# EAGLE library part HT1632 (library ht1632)
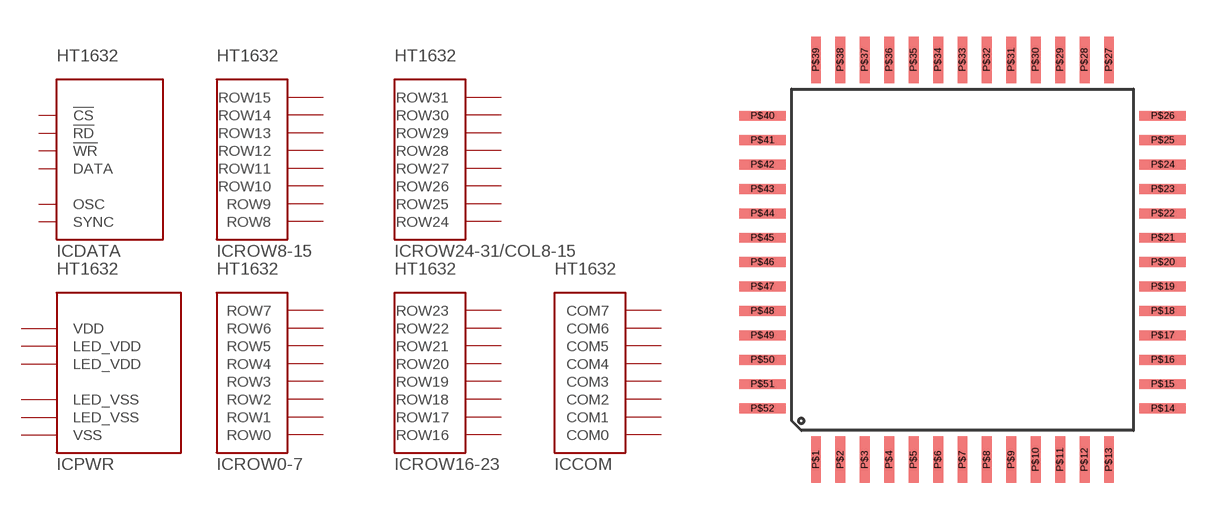
[diagram p0: symbol with the pads of QFP52; footprint QFP52]

Designator prefix IC; gates DATA=HT1632_DATA PWR=HT1632_PWR ROW0-7=HT1632_PORT0 ROW8-15=HT1632_PORT1 ROW16-23=HT1632_PORT2 ROW24-31/COL8-15=HT1632_PORT3 COM=HT1632_COM

## HT1632  [QFP52]
P$1  ROW8-15:ROW11
P$2  ROW8-15:ROW10
P$3  ROW8-15:ROW9
P$4  ROW8-15:ROW8
P$5  ROW0-7:ROW7
P$6  ROW0-7:ROW6
P$7  PWR:LED_VDD
P$8  ROW0-7:ROW5
P$9  ROW0-7:ROW4
P$10  ROW0-7:ROW3
P$11  ROW0-7:ROW2
P$12  ROW0-7:ROW1
P$13  ROW0-7:ROW0
P$14  PWR:VSS
P$15  DATA:OSC
P$16  DATA:DATA
P$17  DATA:!WR
P$18  DATA:!RD
P$19  DATA:!CS
P$20  DATA:SYNC
P$21  PWR:VDD
P$22  COM:COM0
P$23  COM:COM1
P$24  COM:COM2
P$25  PWR:LED_VSS
P$26  COM:COM3
P$27  COM:COM4
P$28  COM:COM5
P$29  COM:COM6
P$30  COM:COM7
P$31  ROW24-31/COL8-15:ROW31
P$32  ROW24-31/COL8-15:ROW30
P$33  ROW24-31/COL8-15:ROW29
P$34  ROW24-31/COL8-15:ROW28
P$35  ROW24-31/COL8-15:ROW27
P$36  PWR:LED_VSS
P$37  ROW24-31/COL8-15:ROW26
P$38  PWR:LED_VDD
P$39  ROW24-31/COL8-15:ROW25
P$40  ROW24-31/COL8-15:ROW24
P$41  ROW16-23:ROW23
P$42  ROW16-23:ROW22
P$43  ROW16-23:ROW21
P$44  ROW16-23:ROW20
P$45  ROW16-23:ROW19
P$46  ROW16-23:ROW18
P$47  ROW16-23:ROW17
P$48  ROW16-23:ROW16
P$49  ROW8-15:ROW15
P$50  ROW8-15:ROW14
P$51  ROW8-15:ROW13
P$52  ROW8-15:ROW12

## Footprint QFP52 (pad centres in mm)
smd 0.406 x 1.9: P$1 -6,-8.1; P$2 -5,-8.1; P$3 -4,-8.1; P$4 -3,-8.1; P$5 -2,-8.1; P$6 -1,-8.1; P$7 0,-8.1; P$8 1,-8.1; P$9 2,-8.1; P$10 3,-8.1; P$11 4,-8.1; P$12 5,-8.1; P$13 6,-8.1; P$27 6,8.3; P$28 5,8.3; P$29 4,8.3; P$30 3,8.3; P$31 2,8.3; P$32 1,8.3; P$33 0,8.3; P$34 -1,8.3; P$35 -2,8.3; P$36 -3,8.3; P$37 -4,8.3; P$38 -5,8.3; P$39 -6,8.3
smd 1.9 x 0.406: P$14 8.2,-6; P$15 8.2,-5; P$16 8.2,-4; P$17 8.2,-3; P$18 8.2,-2; P$19 8.2,-1; P$20 8.2,0; P$21 8.2,1; P$22 8.2,2; P$23 8.2,3; P$24 8.2,4; P$25 8.2,5; P$26 8.2,6; P$40 -8.2,6; P$41 -8.2,5; P$42 -8.2,4; P$43 -8.2,3; P$44 -8.2,2; P$45 -8.2,1; P$46 -8.2,0; P$47 -8.2,-1; P$48 -8.2,-2; P$49 -8.2,-3; P$50 -8.2,-4; P$51 -8.2,-5; P$52 -8.2,-6